# Altium integrated library BUK9832-55A115.IntLib: 1 symbol
Pins are listed as number, name and electrical type; pins without a type are passive.

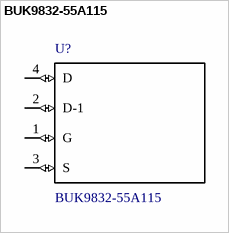
[diagram p0: symbol BUK9832-55A115]

## BUK9832-55A115
designator U?
n Channel Mosfet, Trench Auto, 55v, 10.7a, 4sot223; MF: NXP USA; SnapEDA_Link: https://www.snapeda.com/parts/BUK9832-55A115/NXP%20USA%20Inc./view-part/?ref=snap; Price: None; MP: BUK9832-55A115; Availability: Unavailable; Package: SOT-223-4 NXP Semiconductors; Value: *
footprint *SOT230P700X180-4N
pins: 1 G (io), 2 D-1 (io), 3 S (io), 4 D (io)